# Altium footprint library XTR116UA.PcbLib: 2 footprints
Each footprint in its own frame and in the unit in brackets; x right, y up, seen from the top. Pads: shape width x height; smd on the part's side, far side on the other; paste and mask are expansions set on the pad; w line width, h text height; cw(c..) or ccw(c..) is an arc to the next point about the centre after c.
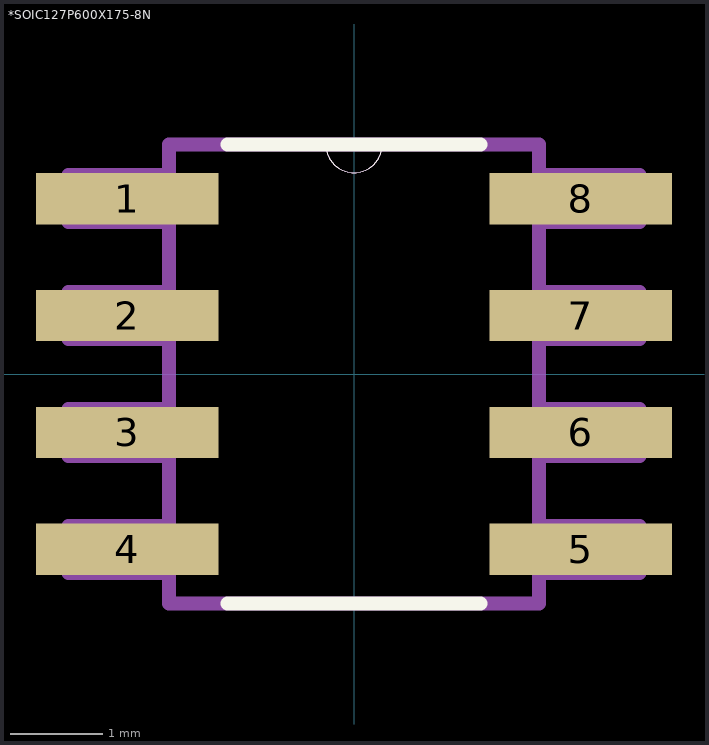
[diagram p0: the footprints below, top view; thin cyan lines are the x and y axes]

## *SOIC127P600X175-8N [mil]
pads (8):
  rect 78x22 smd: 1(-97,75) 2(-97,25) 3(-97,-25) 4(-97,-75) 5(97,-75) 6(97,-25) 7(97,25) 8(97,75)
Top Overlay:
  lines w0: -12,98 ccw(c0,98) 12,98
  lines w6: -54,-98 54,-98 ; -54,98 -12,98 12,98 54,98
Mechanical 4:
  lines w0: -12,98 ccw(c0,98) 12,98 cw(c0,98) -12,98
  lines w6: -122,-85 -122,-65 ; -122,-85 -79,-85 ; -122,-85 -122,-65 ; -122,-85 -79,-85 ; -122,-65 -79,-65 ; -122,-65 -79,-65 ; -122,-35 -122,-15 ; -122,-35 -79,-35 ; -122,-35 -122,-15 ; -122,-35 -79,-35 ; -122,-15 -79,-15 ; -122,-15 -79,-15 ; -122,15 -122,35 ; -122,15 -79,15 ; -122,15 -122,35 ; -122,15 -79,15 ; -122,35 -79,35 ; -122,35 -79,35 ; -122,65 -122,85 ; -122,65 -79,65 ; -122,65 -122,85 ; -122,65 -79,65 ; -122,85 -79,85 ; -122,85 -79,85 ; -79,-98 79,-98 ; -79,-98 -79,98 ; -79,-98 79,-98 ; -79,-98 -79,98 ; -79,-85 -79,-65 ; -79,-85 -79,-65 ; -79,-35 -79,-15 ; -79,-35 -79,-15 ; -79,15 -79,35 ; -79,15 -79,35 ; -79,65 -79,85 ; -79,65 -79,85 ; -79,98 -12,98 ; -79,98 -12,98 ; -12,98 12,98 ; -12,98 12,98 ; 12,98 79,98 ; 12,98 79,98 ; 79,-98 79,98 ; 79,-98 79,98 ; 79,-85 79,-65 ; 79,-85 122,-85 ; 79,-85 79,-65 ; 79,-85 122,-85 ; 79,-65 122,-65 ; 79,-65 122,-65 ; 79,-35 79,-15 ; 79,-35 122,-35 ; 79,-35 79,-15 ; 79,-35 122,-35 ; 79,-15 122,-15 ; 79,-15 122,-15 ; 79,15 79,35 ; 79,15 122,15 ; 79,15 79,35 ; 79,15 122,15 ; 79,35 122,35 ; 79,35 122,35 ; 79,65 79,85 ; 79,65 122,65 ; 79,65 79,85 ; 79,65 122,65 ; 79,85 122,85 ; 79,85 122,85 ; 122,-85 122,-65 ; 122,-85 122,-65 ; 122,-35 122,-15 ; 122,-35 122,-15 ; 122,15 122,35 ; 122,15 122,35 ; 122,65 122,85 ; 122,65 122,85

## PCBComponent_1 [mil]